# Altium schematic symbol library COMPARATOR MCP6541RT-EOT.SchLib: 1 symbol
Pins are listed as number, name and electrical type; pins without a type are passive.

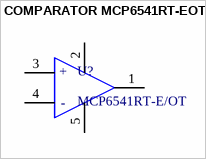
[diagram p0: symbol COMPARATOR MCP6541RT-EOT]

## COMPARATOR MCP6541RT-EOT
designator U?, comment MCP6541RT-E/OT
IC COMP 1.6V SNGL P-P SOT23-5
footprint SOT-23-5_MC_MCH-L
pins: 1 OUT, 2 V+ (power), 3 IN+ (hiz), 4 IN- (hiz), 5 V- (power)
text: +; -